# EAGLE library part AP3211 (library diodes_inc)
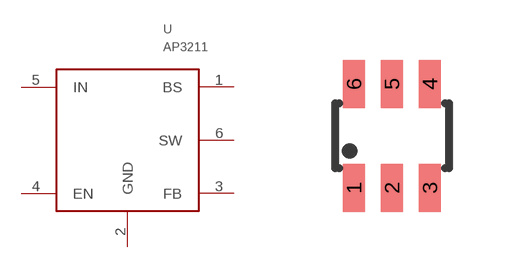
[diagram p0: symbol with the pads of SOT-23-6; footprint SOT-23-6]

Designator prefix -

## AP3211KTR-G1  [SOT-23-6]
1  BS
2  GND
3  FB
4  EN
5  IN
6  SW

## Footprint SOT-23-6 (pad centres in mm)
smd 0.55 x 1.2: 1 -0.95,-1.3; 2 0,-1.3; 3 0.95,-1.3; 4 0.95,1.3; 5 0,1.3; 6 -0.95,1.3